# Altium integrated library ECS-80-10-33-CHN-TR.IntLib: 1 symbol
Pins are listed as number, name and electrical type; pins without a type are passive.

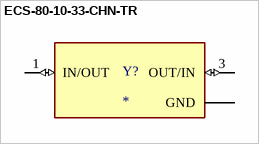
[diagram p0: symbol ECS-80-10-33-CHN-TR]

## ECS-80-10-33-CHN-TR
designator Y?
8 MHz Â±10ppm Crystal 10pF 400 Ohms 4-SMD, No Lead; MP: ECS-80-10-33-CHN-TR; MF: ECS Inc.; Package: SMD-4 ECS International; Purchase-URL: https://pricing.snapeda.com/search/part/ECS-80-10-33-CHN-TR/?ref=eda; Check_prices: https://www.snapeda.com/parts/ECS-80-10-33-CHN-TR/ECS+Inc./view-part/?ref=eda; SnapEDA_Link: https://www.snapeda.com/parts/ECS-80-10-33-CHN-TR/ECS+Inc./view-part/?ref=snap; Price: None; Availability: In Stock; Value: *
footprint XTAL_ECS-80-10-33-CHN-TR
pins: 1 IN/OUT (io), 2 GND (power), 3 OUT/IN (io), 4 GND (power)